# EAGLE library part SI4210DY (library MOSFET)
Dual Channel N-Channel Trench® FET Series
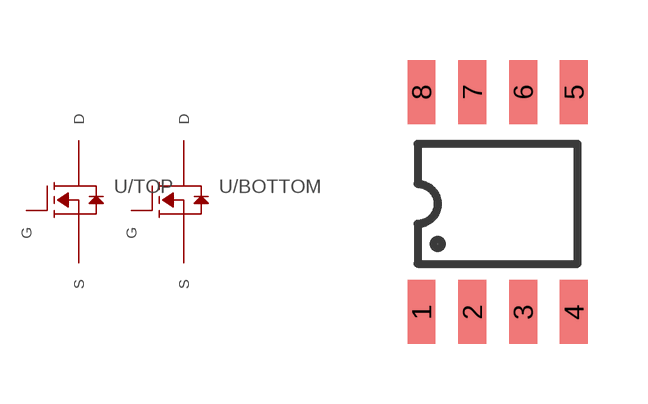
[diagram p0: symbol with the pads of SO-8; footprint SO-8]

Designator prefix U; gates /TOP=N-CHANNEL /BOTTOM=N-CHANNEL

## SI4210DY_SO-8  [SO-8]
1  /TOP:S
2  /TOP:G
3  /BOTTOM:S
4  /BOTTOM:G
5  /BOTTOM:D
6  /BOTTOM:D
7  /TOP:D
8  /TOP:D

## Footprint SO-8 (pad centres in mm)
smd 0.7 x 1.6: 1 -1.905,-2.705; 2 -0.635,-2.705; 3 0.635,-2.705; 4 1.905,-2.705; 5 1.905,2.805; 6 0.635,2.805; 7 -0.635,2.805; 8 -1.905,2.805